# EAGLE library part B+_GPIO (library raspberry)
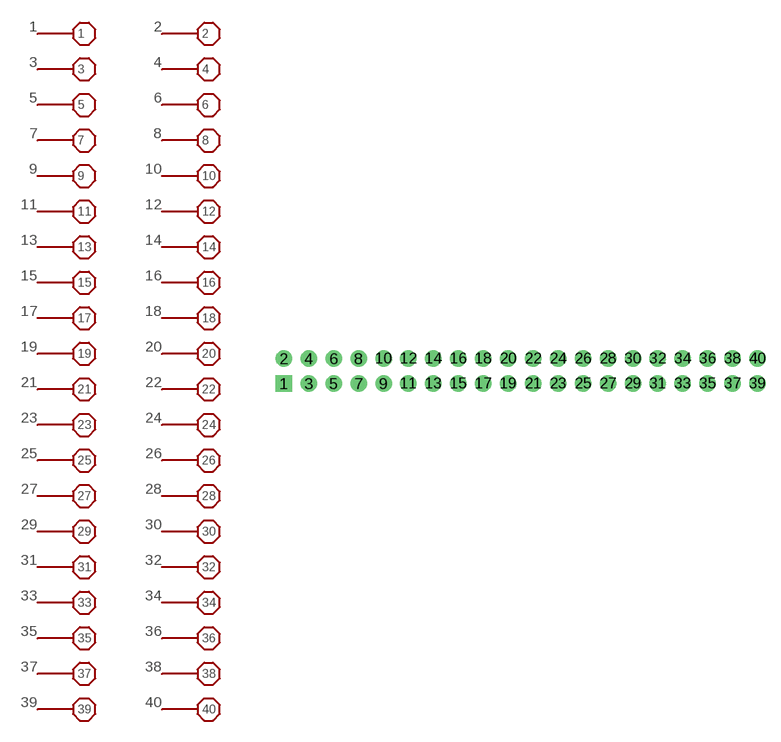
[diagram p1: symbol with the pads of B+_GPIO; footprint B+_GPIO]

Designator prefix X; gates 1=GPIO-PIN 2=GPIO-PIN 3=GPIO-PIN 4=GPIO-PIN 5=GPIO-PIN 6=GPIO-PIN 7=GPIO-PIN 8=GPIO-PIN 9=GPIO-PIN 10=GPIO-PIN 11=GPIO-PIN 12=GPIO-PIN 13=GPIO-PIN 14=GPIO-PIN 15=GPIO-PIN 16=GPIO-PIN 17=GPIO-PIN 18=GPIO-PIN 19=GPIO-PIN 20=GPIO-PIN 21=GPIO-PIN 22=GPIO-PIN 23=GPIO-PIN 24=GPIO-PIN 25=GPIO-PIN 26=GPIO-PIN 27=GPIO-PIN 28=GPIO-PIN 29=GPIO-PIN 30=GPIO-PIN 31=GPIO-PIN 32=GPIO-PIN 33=GPIO-PIN 34=GPIO-PIN 35=GPIO-PIN 36=GPIO-PIN 37=GPIO-PIN 38=GPIO-PIN 39=GPIO-PIN 40=GPIO-PIN

## B+_GPIO  [B+_GPIO]
1  1:P$1
2  2:P$1
3  3:P$1
4  4:P$1
5  5:P$1
6  6:P$1
7  7:P$1
8  8:P$1
9  9:P$1
10  10:P$1
11  11:P$1
12  12:P$1
13  13:P$1
14  14:P$1
15  15:P$1
16  16:P$1
17  17:P$1
18  18:P$1
19  19:P$1
20  20:P$1
21  21:P$1
22  22:P$1
23  23:P$1
24  24:P$1
25  25:P$1
26  26:P$1
27  27:P$1
28  28:P$1
29  29:P$1
30  30:P$1
31  31:P$1
32  32:P$1
33  33:P$1
34  34:P$1
35  35:P$1
36  36:P$1
37  37:P$1
38  38:P$1
39  39:P$1
40  40:P$1

## Footprint B+_GPIO (pad centres in mm)
drill 0.9 pad 1.676 square: 1 -24.13,-1.27
drill 0.9 pad 1.676: 2 -24.13,1.27; 3 -21.59,-1.27; 4 -21.59,1.27; 5 -19.05,-1.27; 6 -19.05,1.27; 7 -16.51,-1.27; 8 -16.51,1.27; 9 -13.97,-1.27; 10 -13.97,1.27; 11 -11.43,-1.27; 12 -11.43,1.27; 13 -8.89,-1.27; 14 -8.89,1.27; 15 -6.35,-1.27; 16 -6.35,1.27; 17 -3.81,-1.27; 18 -3.81,1.27; 19 -1.27,-1.27; 20 -1.27,1.27; 21 1.27,-1.27; 22 1.27,1.27; 23 3.81,-1.27; 24 3.81,1.27; 25 6.35,-1.27; 26 6.35,1.27; 27 8.89,-1.27; 28 8.89,1.27; 29 11.43,-1.27; 30 11.43,1.27; 31 13.97,-1.27; 32 13.97,1.27; 33 16.51,-1.27; 34 16.51,1.27; 35 19.05,-1.27; 36 19.05,1.27; 37 21.59,-1.27; 38 21.59,1.27; 39 24.13,-1.27; 40 24.13,1.27